# Altium schematic symbol library DI_LED_GREENx4.SchLib: 1 symbol
Pins are listed as number, name and electrical type; pins without a type are passive.

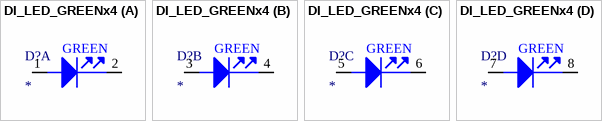
[diagram p0: symbol DI_LED_GREENx4]

## DI_LED_GREENx4
designator D?
part A pins: 1 A, 2 C
part B pins: 3 A, 4 C
part C pins: 5 A, 6 C
part D pins: 7 A, 8 C
part A text: GREEN
part B text: GREEN
part C text: GREEN
part D text: GREEN